# EAGLE library part MAX9107 (library ruark2)
Comparator General Purpose TTL 8-SOIC
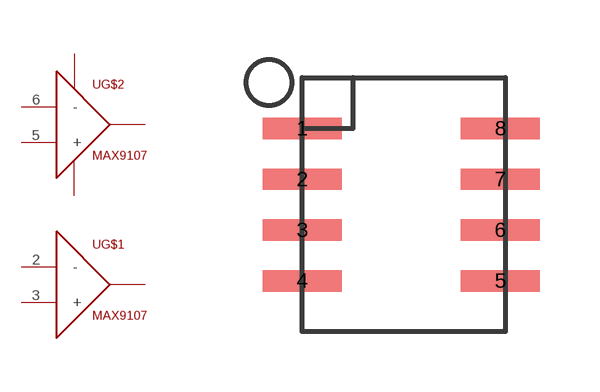
[diagram p27: symbol with the pads of SOIC8; footprint SOIC8]

Designator prefix U; gates G$1=COMPARATOR G$2=COMPARATOR_POWERED

## MAX9107 (PARTNO: MAX9107ESA+-ND)  [SOIC8]
1  G$1:OUT
2  G$1:-
3  G$1:+
4  G$2:VSS
5  G$2:+
6  G$2:-
7  G$2:OUT
8  G$2:VCC

## Footprint SOIC8 (pad centres in mm)
smd 1.981 x 0.533: 1 -2.477,1.905; 2 -2.477,0.635; 3 -2.477,-0.635; 4 -2.477,-1.905; 5 2.477,-1.905; 6 2.477,-0.635; 7 2.477,0.635; 8 2.477,1.905